# Altium integrated library 2-1445098-2.IntLib: 1 symbol
Pins are listed as number, name and electrical type; pins without a type are passive.

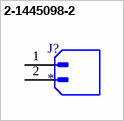
[diagram p0: symbol 2-1445098-2]

## 2-1445098-2
designator J?
Micro MATE-N-LOK SER,3mm Pitch 2Way 1 Row RightAngle PCB Header,Solder Term,5A | TE Connectivity 2-1445098-2; MF: TE Connectivity / AMP; SnapEDA_Link: https://www.snapeda.com/parts/2-1445098-2/TE+Connectivity+%252F+AMP/view-part/?ref=snap; Package: None; Value: *; MP: 2-1445098-2; Check_prices: https://www.snapeda.com/parts/2-1445098-2/TE+Connectivity+%252F+AMP/view-part/?ref=eda
footprint TE_2-1445098-2
pins: 1, 2